# EAGLE library part MICROCHIP-MCP79400-I_SN_MCP79400-I/SN (library Shield)
I2C Real-Time Clock/Calendar with SRAM,SOIC-8
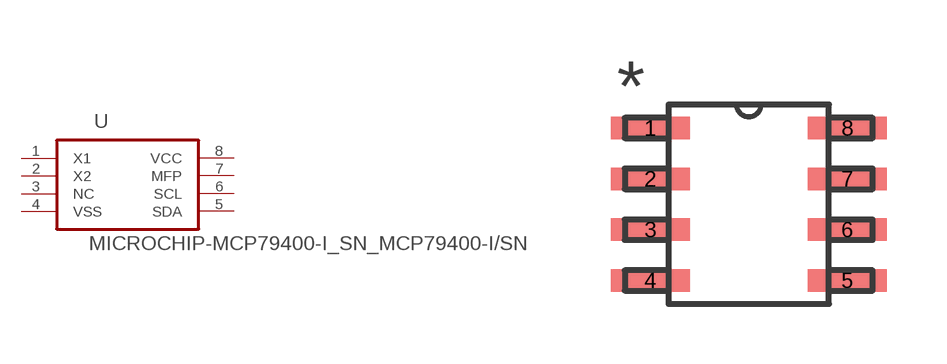
[diagram p5: symbol with the pads of MICROCHIP-MCP79400-I_SN_SOIC127P600X175-8N; footprint MICROCHIP-MCP79400-I_SN_SOIC127P600X175-8N]

Designator prefix U

## MICROCHIP-MCP79400-I_SN_MCP79400-I/SN (MPN: MCP79400-I/SN; OC_FARNELL: 2361117; OC_NEWARK: 12X8719; PACKAGE: SOIC-8; SUPPLIER: MICROCHIP)  [MICROCHIP-MCP79400-I_SN_SOIC127P600X175-8N]
1  X1  in
2  X2  out
3  NC  pwr
4  VSS  pwr
5  SDA
6  SCL  in
7  MFP  in
8  VCC  pwr

## Footprint MICROCHIP-MCP79400-I_SN_SOIC127P600X175-8N (pad centres in mm)
smd 1.981 x 0.559: 1 -2.464,1.905; 2 -2.464,0.635; 3 -2.464,-0.635; 4 -2.464,-1.905; 5 2.464,-1.905; 6 2.464,-0.635; 7 2.464,0.635; 8 2.464,1.905